# Altium schematic symbol library Pasivos.SchLib: 26 symbols
Pins are listed as number, name and electrical type; pins without a type are passive.

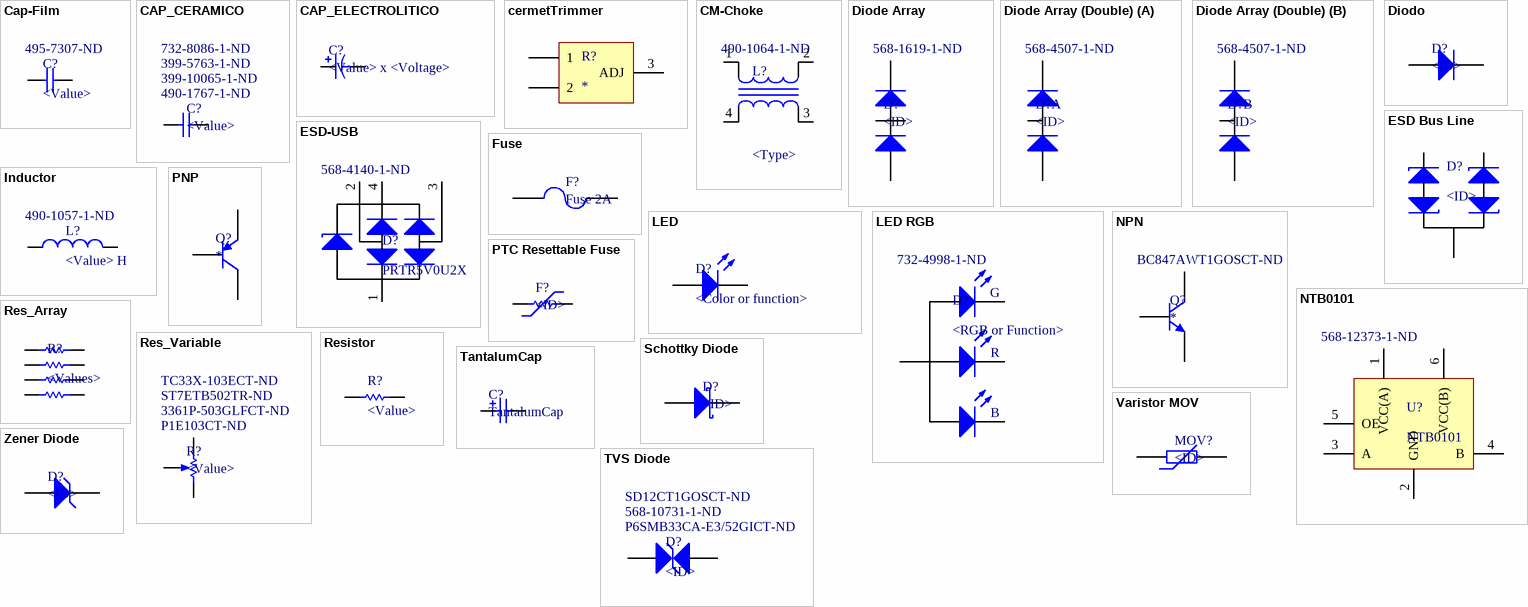
[diagram p0: symbols Cap-Film to Zener Diode]

## Cap-Film
designator C?, comment <Value>  Supplier Part Number 1: 495-7307-ND
Metallized polypropylene film capacitors (MFP); Supplier 1: Digi-Key
footprint Cap-Film (Metallized polypropylene film capacitors (MFP))
pins: 1, 2

## CAP_CERAMICO
designator C?, comment <Value>  Supplier Part Number 1: 490-1767-1-ND  Supplier Part Number 2: 399-10065-1-ND  Supplier Part Number 3: 399-5763-1-ND  Supplier Part Number 4: 732-8086-1-ND
Ceramic/Tantalum Capacitor; Supplier 1: Digi-Key; Supplier 2: Digi-Key; Supplier 3: Digi-Key; Supplier 4: Digi-Key
footprint CC_1206 (Capacitor ceramico SMD Y5V 50V)
footprint C0805 (Chip Capacitor, Body 2.0x1.3mm, IPC High Density)
footprint CC_0603 (Chip Capacitor, Body 1.6x0.8mm, IPC High Density)
pins: 1, 2

## CAP_ELECTROLITICO
designator C?, comment <Value> x <Voltage>
Capacitor Electrolítico
footprint CAP_ELECTROLITICO (Capacitor Electrolítico 470uF x 25V)
footprint CAPACITOR 4x5.5 (SMD Aluminum Capacitor D=4mm,H=5.5mm, 4.3x4.3 [mm2], 10uF x 16V)
footprint SMD Capacitor (SMD Aluminum Cap. 6.3x6.3 mm)
footprint Capacitor 8x10 (SMD Aluminum Capacitor D=8.3mm,H=10mm, 8.3x8.3 [mm2], 470uF x 35V)
footprint CT_1206 (Tantalum Capacitor 1206 SMD)
footprint Capacitor 10.3x10.3 (Aluminum Electrolytic Capacitors FKS Panasonic)
pins: 1, 2

## cermetTrimmer
designator R?
footprint cermetTrimmer (Bourns 3386H Series Through Hole Cermet Trimmer Resistor with Pin Terminations, 10kO ±10% 1/2W ±100ppm/°C)
pins: 1, 2, 3 ADJ

## CM-Choke
designator L?, comment <Type>  Supplier Part Number 1: 490-1064-1-ND
Common Mode Choke; Supplier 1: Digi-Key
footprint SMD-Choke (2 Line Common Mode Choke Surface Mount - DLW21H)
pins: 1, 2, 3, 4

## Diode Array
designator D?, comment <ID>  Supplier Part Number 1: 568-1619-1-ND
Diode Array; Supplier 1: Digi-Key
footprint SOT23 (BC848B)
pins: 1 A, 2 K, 3 COM, 3 COM

## Diode Array (Double)
designator D?, comment <ID>  Supplier Part Number 1: 568-4507-1-ND
Double Diode Array; Supplier 1: Digi-Key
footprint SOT363 (TSSOP6; SC-88; SC-70-6)
part A pins: 1 A, 2 K, 6 COM
part B pins: 3 COM, 4 A, 5 K

## Diodo
designator D?, comment <ID>
Diodo
footprint DO-214AC (SMA) (Surface Mount Schottky Barrier Rectifier SS14)
footprint SMC 403-03 (SMC; 2 C-Bend Leads)
footprint SOD-123 (SODFL, 2-Leads, Body 1.55x3.65mm, IPC Medium Density)
pins: 1 K, 2 A

## ESD Bus Line
designator D?, comment <ID>
ElectroStatic Discharge (ESD) protection diode  designed to protect  bus lines from the damage caused by ESD and other  transients.
footprint SOT23 (BC848B)
pins: 1 C1 "Cathode 1", 2 C2 "Cathode 2", 3 CK "Common Cathode"

## ESD-USB
designator D?, comment PRTR5V0U2X  Supplier Part Number 1: 568-4140-1-ND
TVS DIODE 5.5VWM SOT143B; Supplier 1: Digi-Key
footprint SOT143B (SOT143, 4-Leads, Body 2.92x2.30mm, Pitch 1.90mm, IPC Medium Density)
pins: 1 GND "Common Cathode", 2 IO1, 3 IO2, 4 VBUS "Cathode 2"

## Fuse
designator F?, comment Fuse 2A
Fuse 2A with Holder
footprint Fuse Holder (PCB Fuse Holder 15mm)
footprint FUSE (Fuse 5A with Holder 20mm)
footprint 1210 (3225 Metric) (Chip Resistor, Body 3.2x2.5mm, IPC High Density)
pins: 1, 2

## Inductor
designator L?, comment <Value> H  Supplier Part Number 1: 490-1057-1-ND
Inductor; Supplier 1: Digi-Key
footprint WE-PD 1210 Inductor (WE-PD SMD Shielded Power Inductor)
footprint CC_1206 (Capacitor ceramico SMD Y5V 50V)
footprint WE-HCI Inductor (WE-HCI SMD Flat Wire High Current  Inductor)
footprint CC_0603 (Chip Capacitor, Body 1.6x0.8mm, IPC High Density)
pins: 1, 2

## LED
designator D?, comment <Color or function>
LED
footprint LED_SMD (LED SMD 1206)
footprint LED 0603 (LED SMD 0603)
pins: 1 A, 2 K

## LED RGB
designator D?, comment <RGB or Function>  Supplier Part Number 1: 732-4998-1-ND
LED RGB; Supplier 1: Digi-Key
footprint LED RGB SMD 3528 (WL-SFTW SMD LED RGB 3528)
pins: 1 A, 2 B, 3 R, 4 G

## NPN
designator Q?  Supplier Part Number 1: BC847AWT1GOSCT-ND
NPN Transistor; Supplier 1: Digi-Key
footprint DPAK-2 (DPAK Package)
footprint TRANSISTOR-SMD (BC848B)
pins: 1 B, 2 C, 3 E

## NTB0101
designator U?  Supplier Part Number 1: 568-12373-1-ND
Dual supply translating transceiver; auto direction sensing; 3-state; Supplier 1: Digi-Key
footprint SOT363 (TSSOP6; SC-88; SC-70-6)
pins: 1 VCC(A), 2 GND, 3 A, 4 B, 5 OE, 6 VCC(B)

## PNP
designator Q?
PNP Transistor
footprint TIP115 (PNP Epitaxial Silicon Darlington Transistor)
pins: 1 C, 2 B, 3 E

## PTC Resettable Fuse
designator F?, comment <ID>
PTC Resettable Fuses
footprint PolySwitch
footprint 1210 Fuse (Chip Resistor, Body 3.2x2.5mm, IPC High Density)
footprint 1812 SMD (Chip Capacitor, Body 4.5x3.2mm, IPC High Density)
footprint 1206-PTC (PTC Resettable Fuse Surface Mount 1206 (3216 Metric), Concave)
pins: 1, 2

## Res_Array
designator R?, comment <Values>
4 Resistors Array
footprint RES_ARRAY_SMD (TC164 Series Chip Array Resistor)
pins: 1, 2, 3, 4, 5, 6, 7, 8

## Res_Variable
designator R?, comment <Value>  Supplier Part Number 1: P1E103CT-ND  Supplier Part Number 2: 3361P-503GLFCT-ND  Supplier Part Number 3: ST7ETB502TR-ND  Supplier Part Number 4: TC33X-103ECT-ND
Variable Resistor; Supplier 1: Digi-Key; Supplier 2: Digi-Key; Supplier 3: Digi-Key; Supplier 4: Digi-Key
footprint CERMET_TOP (Cermet serie 3296W aj. vertical)
footprint cermetTrimmer (Bourns 3386H Series Through Hole Cermet Trimmer Resistor with Pin Terminations, 10kO ±10% 1/2W ±100ppm/°C)
footprint Bourns 3361 (3361 - 1/4 ” Square SMD Trimpot® Trimming Potentiometer)
footprint Trimmer_3364_SMD (Surface Mount Trimmer Potentiometer Cermet Top Adjustment)
footprint Trimpot-SMD-TC33 (Surface Mount Trimmer Potentiometer Cermet Top Adjustment)
pins: 1 TOP, 2 BOT, 3 TAP

## Resistor
designator R?, comment <Value>
Resistor
footprint RES_1206 (Chip Resistor, 2-Leads, Body 3,10x1,55mm, IPC Medium Density)
footprint RES_1W (1W THT Resistor)
footprint RES_AXIAL (Resistor Axial)
footprint RES_2512 (Chip Capacitor, Body 2.54x1.27mm, IPC High Density)
footprint 8230 J-Lead (Molded Resistor, 2-Leads, Body 20.80x7.50mm, IPC Medium Density)
footprint 1210 (3225 Metric) (Chip Resistor, Body 3.2x2.5mm, IPC High Density)
footprint 1206-0Ohm (Puente 1206)
pins: 1, 2

## Schottky Diode
designator D?, comment <ID>
Schottky Diode
footprint DO-214AC (SMA) (Surface Mount Schottky Barrier Rectifier SS14)
footprint DO-214AB (SMC) (DO-214AB (SMC) Package)
pins: 1 K, 2 A

## TantalumCap
designator C?
footprint TantalumCap (Tantalum Capacitor)
pins: 1, 2

## TVS Diode
designator D?, comment <ID>  Supplier Part Number 1: P6SMB33CA-E3/52GICT-ND  Supplier Part Number 2: 568-10731-1-ND  Supplier Part Number 3: SD12CT1GOSCT-ND
Bidirectional TVS Diode; Supplier 1: Digi-Key; Supplier 2: Digi-Key; Supplier 3: Digi-Key
footprint SOD-323 (SOD-323 Package)
footprint DO-214AA (SMB) (DO-214AA (SMB J-Bend))
pins: 1 A, 2 K

## Varistor MOV
designator MOV?, comment <ID>
MOV
footprint MOV_14mm (MOV Varistor Diámetro=14 mm)
footprint MOV_20mm (MOV Varistor Diámetro=20 mm)
pins: 1, 2

## Zener Diode
designator D?, comment <ID>
Zener Diode
footprint ZENER (Zener Diode 1W)
footprint DO-214AC (SMA) (Surface Mount Schottky Barrier Rectifier SS14)
pins: 1 K, 2 A